# Altium footprint library PicoBlade 5POS VERT SMD.PcbLib: 1 footprints
Each footprint in its own frame and in the unit in brackets; x right, y up, seen from the top. Pads: shape width x height; smd on the part's side, far side on the other; paste and mask are expansions set on the pad; w line width, h text height; cw(c..) or ccw(c..) is an arc to the next point about the centre after c.
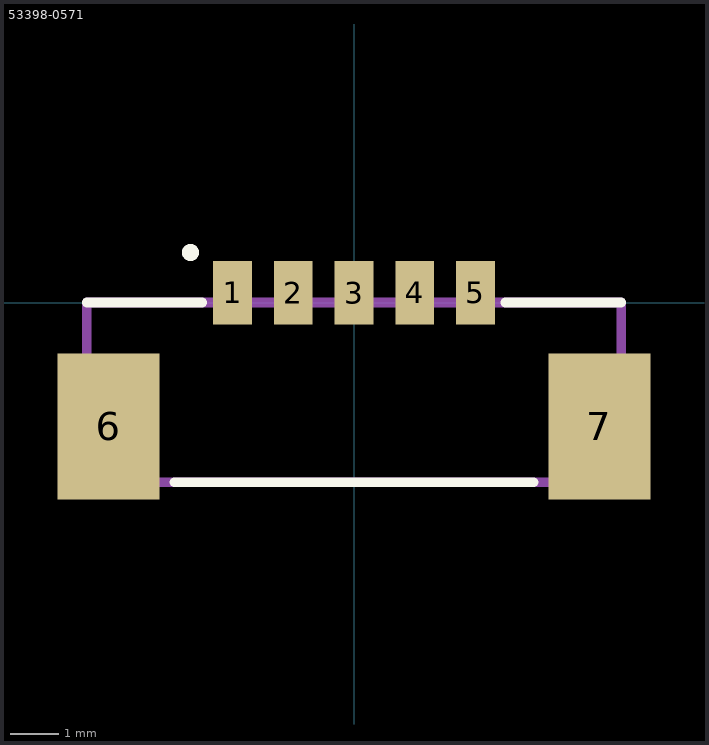
[diagram p0: the footprint, top view; thin cyan lines are the x and y axes]

## 53398-0571 [mm]
pads (7):
  rect 0.8x1.3 smd: 1(-2.5,0.2) 2(-1.25,0.2) 3(0,0.2) 4(1.25,0.2) 5(2.5,0.2)
  rect 2.1x3 smd: 6(-5.05,-2.55) 7(5.05,-2.55)
L26-Silk Screen Top (Multiple PADS layers...):
  circle w0.2: c-3.366,1.031 r0.077
  lines w0.2: -5.5,0 -3.122,0 ; -3.7,-3.7 3.7,-3.7 ; 3.111,0 5.5,0
L15 (Multiple PADS layers...):
  lines w0.2: -5.5,-3.7 5.5,-3.7 5.5,0 -5.5,0 -5.5,-3.7